# EAGLE library part SN74AC08 (library bschulz)
SN74AC08 - AND, 4 Element, 2 Input Characteristics: VCC: 2 ~ 6V IQ = <2μA Operating Temperature: -40°C to 85°C Digikey: 296-4292-1-ND <https://www.digikey.com/en/products/detail/texas-instruments/SN74AC08PWR/376110>
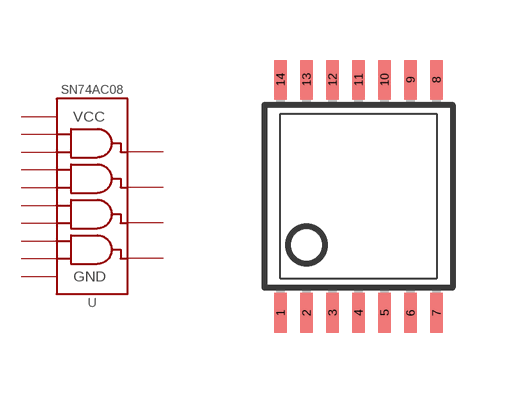
[diagram p158: symbol with the pads of TSSOP14; footprint TSSOP14]

Designator prefix U

## SN74AC08 (DIGIKEY: 296-4292-1-ND; MF: TI; MPN: SN74AC08PWR)  [TSSOP14]
1  A1  in
2  B1  in
3  Y1  out
4  A2  in
5  B2  in
6  Y2  out
7  GND  pwr
8  Y3  out
9  A3  in
10  B3  in
11  Y4  out
12  A4  in
13  B4  in
14  VCC  pwr

## Footprint TSSOP14 (pad centres in mm)
Thin Shrink Small Outline Plastic 14 0.65mm pitch, 14 pin Datasheet <https://pdfserv.maximintegrated.com/en/ds/MAX3221-MAX3243.pdf>
smd 0.305 x 0.991: 1 -1.95,-2.918; 2 -1.3,-2.918; 3 -0.65,-2.918; 4 0,-2.918; 5 0.65,-2.918; 6 1.3,-2.918; 7 1.95,-2.918; 8 1.95,2.918; 9 1.3,2.918; 10 0.65,2.918; 11 0,2.918; 12 -0.65,2.918; 13 -1.3,2.918; 14 -1.95,2.918